# EAGLE library part FH12-8S-1S (library blinkinlabs)
1mm Pitch Connectors For FPC/FFC Source: Data sheet <http://www.hirose.co.jp/cataloge_hp/e58605370.pdf>
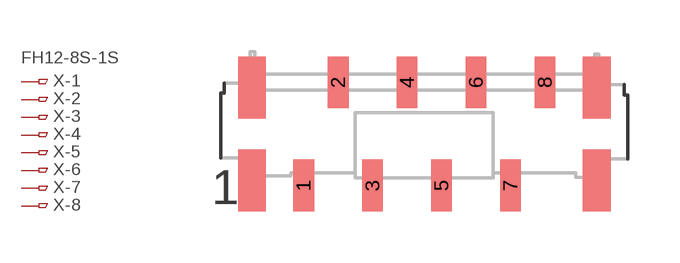
[diagram p7: symbol with the pads of FH12-8S-1SV; footprint FH12-8S-1SV]

Designator prefix X; gates -1=PINV -2=PIN -3=PIN -4=PIN -5=PIN -6=PIN -7=PIN -8=PIN

## FH12-8S-1SV (OC_FARNELL: unknown; OC_NEWARK: unknown)  [FH12-8S-1SV]
1  -1:1  pas
2  -2:1  pas
3  -3:1  pas
4  -4:1  pas
5  -5:1  pas
6  -6:1  pas
7  -7:1  pas
8  -8:1  pas

## Footprint FH12-8S-1SV (pad centres in mm)
1mm Pitch Connectors For FPC/FFC Source: Data sheet <http://www.hirose.co.jp/cataloge_hp/e58605370.pdf>
smd 0.6 x 1.5: 1 -7.5,-1.5; 2 -6.5,1.5; 3 -5.5,-1.5; 4 -4.5,1.5; 5 -3.5,-1.5; 6 -2.5,1.5; 7 -1.5,-1.5; 8 -0.5,1.5